# EAGLE library part TSM-106-XX-X-DH-A (library samtec)
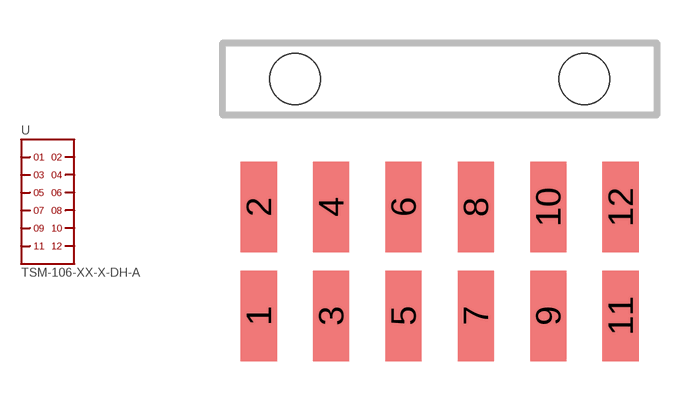
[diagram p12: symbol with the pads of TSM-106-XX-X-DH-A; footprint TSM-106-XX-X-DH-A]

Designator prefix -

## TSM-106-XX-X-DH-A  [TSM-106-XX-X-DH-A]
1  1
2  2
3  3
4  4
5  5
6  6
7  7
8  8
9  9
10  10
11  11
12  12

## Footprint TSM-106-XX-X-DH-A (pad centres in mm)
PCB Matrix Packages
smd 1.27 x 3.175: 1 -6.35,-1.905; 2 -6.35,1.905; 3 -3.81,-1.905; 4 -3.81,1.905; 5 -1.27,-1.905; 6 -1.27,1.905; 7 1.27,-1.905; 8 1.27,1.905; 9 3.81,-1.905; 10 3.81,1.905; 11 6.35,-1.905; 12 6.35,1.905
hole 1.778 at -5.08,6.401
hole 1.778 at 5.08,6.401